# Altium footprint library PCB - CONNECTOR - JST - JST SM05B-SURS-TF.PCBLIB: 1 footprints
Each footprint in its own frame and in the unit in brackets; x right, y up, seen from the top. Pads: shape width x height; smd on the part's side, far side on the other; paste and mask are expansions set on the pad; w line width, h text height; cw(c..) or ccw(c..) is an arc to the next point about the centre after c.
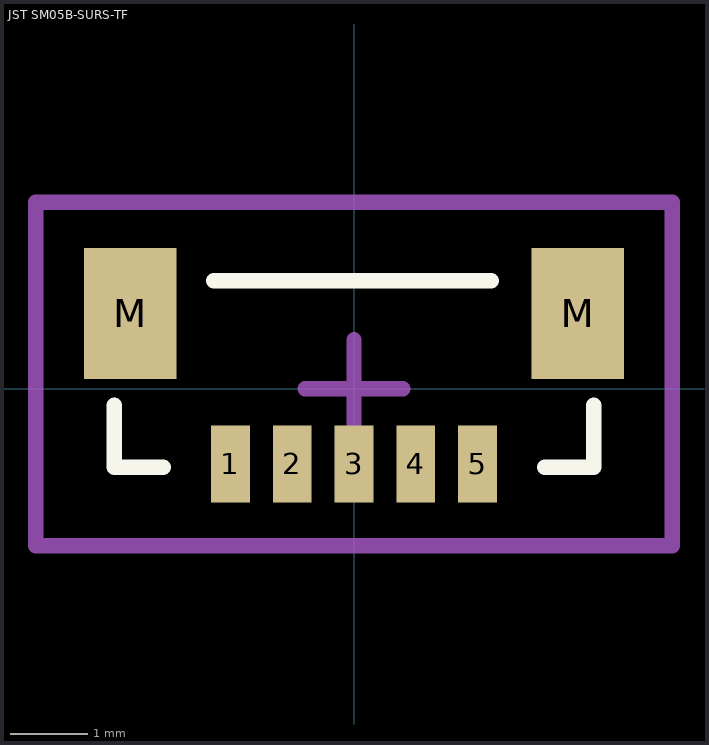
[diagram p0: the footprint, top view; thin cyan lines are the x and y axes]

## JST SM05B-SURS-TF [mm] "1.0mm pitch/Disconnectable Crimp style connector"
height 2.95
pads (7):
  rect 0.5x1 smd: 1(-1.6,-0.975) 2(-0.8,-0.975) 3(0,-0.975) 4(0.8,-0.975) 5(1.6,-0.975)
  rect 1.2x1.7 smd: M(-2.9,0.975) M(2.9,0.975)
Top Overlay:
  lines w0.2: -3.105,-0.213 -3.105,-1.016 -2.47,-1.016 ; -1.816,1.397 1.778,1.397 ; 2.47,-1.016 3.105,-1.016 3.105,-0.213
Mechanical 15:
  lines w0.2: -0.635,0 0.635,0 ; 0,-0.635 0,0.635 ; -4.121,-2.032 4.121,-2.032 4.121,2.413 -4.121,2.413 -4.121,-2.032
3D body "JST SM05B-SURS-TF.STEP": height 1.75, standoff 0, extent -3.1,-1.303 3.1,1.397